# EAGLE library part TEXAS_INSTRUMENTS-BUCK_BOOST_CONTROLLER-LM25118Q1MHX/NOPB (library Module_Regulators)
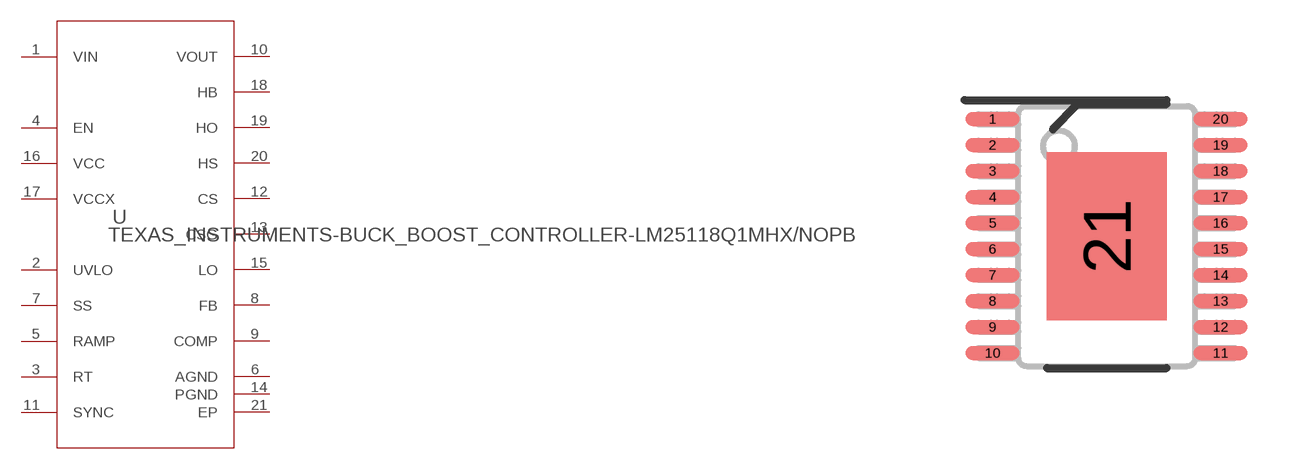
[diagram p17: symbol with the pads of TEXAS_INSTRUMENTS-BUCK_CONTROLLER-LM5117PMHX/NOPB/BUCK_BOOST_CONTROLLER-LM25118Q1MHX/NOPB; footprint TEXAS_INSTRUMENTS-BUCK_CONTROLLER-LM5117PMHX/NOPB/BUCK_BOOST_CONTROLLER-LM25118Q1MHX/NOPB]

Designator prefix U

## TEXAS_INSTRUMENTS-BUCK_BOOST_CONTROLLER-LM25118Q1MHX/NOPB (ALTERNATEPARTNUMBER: LM25118Q1MHNOPB; APPLICATION_BUILDNUMBER: *; COMPTYPE: IC; MANUFACTURER: Texas Instruments; MOUNTTYPE: SMT; PACKAGEREFERENCE: PWP0020A; PARTNUMBER: LM25118Q1MHXNOPB; PIN_COUNT: 21; REFDES: RefDes; ROHS: Y; TYPE: TYPE; VALUE: Value)  [TEXAS_INSTRUMENTS-BUCK_CONTROLLER-LM5117PMHX/NOPB/BUCK_BOOST_CONTROLLER-LM25118Q1MHX/NOPB]
1  VIN  pwr
2  UVLO  in
3  RT  in
4  EN  in
5  RAMP  in
6  AGND  pwr
7  SS  in
8  FB  in
9  COMP  out
10  VOUT  out
11  SYNC  in
12  CS  in
13  CSG  pwr
14  PGND  pwr
15  LO  out
16  VCC  pwr
17  VCCX  in
18  HB  pas
19  HO  out
20  HS  pas
21  EP  pwr

## Footprint TEXAS_INSTRUMENTS-BUCK_CONTROLLER-LM5117PMHX/NOPB/BUCK_BOOST_CONTROLLER-LM25118Q1MHX/NOPB (pad centres in mm)
smd 1.35 x 0.35: 1 -2.85,2.925; 2 -2.85,2.275; 3 -2.85,1.625; 4 -2.85,0.975; 5 -2.85,0.325; 6 -2.85,-0.325; 7 -2.85,-0.975; 8 -2.85,-1.625; 9 -2.85,-2.275; 10 -2.85,-2.925; 11 2.85,-2.925; 12 2.85,-2.275; 13 2.85,-1.625; 14 2.85,-0.975; 15 2.85,-0.325; 16 2.85,0.325; 17 2.85,0.975; 18 2.85,1.625; 19 2.85,2.275; 20 2.85,2.925
smd 3 x 4.2: 21 0,0